# EAGLE library part CHIP (library me)
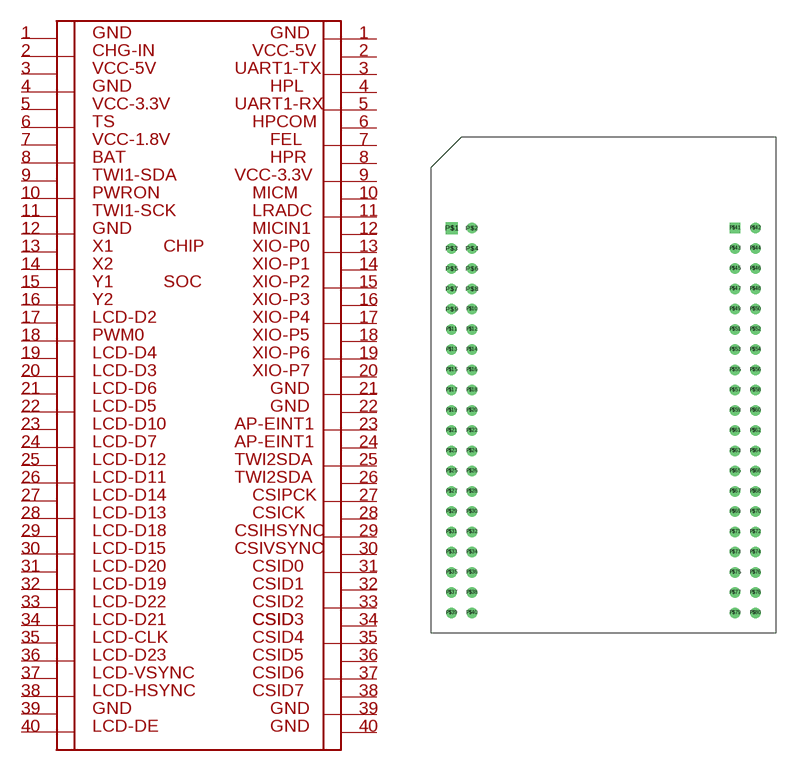
[diagram p11: symbol with the pads of CHIP; footprint CHIP]

Designator prefix SOC

## CHIP  [CHIP]
P$1  P$1
P$2  P$2
P$3  P$3
P$4  P$4
P$5  P$5
P$6  P$6
P$7  P$7
P$8  P$8
P$9  P$9
P$10  P$10
P$11  P$11
P$12  P$12
P$13  P$13
P$14  P$14
P$15  P$15
P$16  P$16
P$17  P$17
P$18  P$18
P$19  P$19
P$20  P$20
P$21  P$21
P$22  P$22
P$23  P$23
P$24  P$24
P$25  P$25
P$26  P$26
P$27  P$27
P$28  P$28
P$29  P$29
P$30  P$30
P$31  P$31
P$32  P$32
P$33  P$33
P$34  P$34
P$35  P$35
P$36  P$36
P$37  P$37
P$38  P$38
P$39  P$39
P$40  P$40
P$41  P$41
P$42  P$42
P$43  P$43
P$44  P$44
P$45  P$45
P$46  P$46
P$47  P$47
P$48  P$48
P$49  P$49
P$50  P$50
P$51  P$51
P$52  P$52
P$53  P$53
P$54  P$54
P$55  P$55
P$56  P$56
P$57  P$57
P$58  P$58
P$59  P$59
P$60  P$60
P$61  P$61
P$62  P$62
P$63  P$63
P$64  P$64
P$65  P$65
P$66  P$66
P$67  P$67
P$68  P$68
P$69  P$69
P$70  P$70
P$71  P$71
P$72  P$72
P$73  P$73
P$74  P$74
P$75  P$75
P$76  P$76
P$77  P$77
P$78  P$78
P$79  P$79
P$80  P$80

## Footprint CHIP (pad centres in mm)
drill 1 square: P$1 -19.05,24.13
drill 0.8: P$2 -16.51,24.13; P$3 -19.05,21.59; P$4 -16.51,21.59; P$5 -19.05,19.05; P$6 -16.51,19.05; P$7 -19.05,16.51; P$8 -16.51,16.51; P$9 -19.05,13.97; P$10 -16.51,13.97; P$11 -19.05,11.43; P$12 -16.51,11.43; P$13 -19.05,8.89; P$14 -16.51,8.89; P$15 -19.05,6.35; P$16 -16.51,6.35; P$17 -19.05,3.81; P$18 -16.51,3.81; P$19 -19.05,1.27; P$20 -16.51,1.27; P$21 -19.05,-1.27; P$22 -16.51,-1.27; P$23 -19.05,-3.81; P$24 -16.51,-3.81; P$25 -19.05,-6.35; P$26 -16.51,-6.35; P$27 -19.05,-8.89; P$28 -16.51,-8.89; P$29 -19.05,-11.43; P$30 -16.51,-11.43; P$31 -19.05,-13.97; P$32 -16.51,-13.97; P$33 -19.05,-16.51; P$34 -16.51,-16.51; P$35 -19.05,-19.05; P$36 -16.51,-19.05; P$37 -19.05,-21.59; P$38 -16.51,-21.59; P$39 -19.05,-24.13; P$40 -16.51,-24.13; P$42 19.05,24.13; P$43 16.51,21.59; P$44 19.05,21.59; P$45 16.51,19.05; P$46 19.05,19.05; P$47 16.51,16.51; P$48 19.05,16.51; P$49 16.51,13.97; P$50 19.05,13.97; P$51 16.51,11.43; P$52 19.05,11.43; P$53 16.51,8.89; P$54 19.05,8.89; P$55 16.51,6.35; P$56 19.05,6.35; P$57 16.51,3.81; P$58 19.05,3.81; P$59 16.51,1.27; P$60 19.05,1.27; P$61 16.51,-1.27; P$62 19.05,-1.27; P$63 16.51,-3.81; P$64 19.05,-3.81; P$65 16.51,-6.35; P$66 19.05,-6.35; P$67 16.51,-8.89; P$68 19.05,-8.89; P$69 16.51,-11.43; P$70 19.05,-11.43; P$71 16.51,-13.97; P$72 19.05,-13.97; P$73 16.51,-16.51; P$74 19.05,-16.51; P$75 16.51,-19.05; P$76 19.05,-19.05; P$77 16.51,-21.59; P$78 19.05,-21.59; P$79 16.51,-24.13; P$80 19.05,-24.13
drill 0.8 square: P$41 16.51,24.13